# Altium schematic symbol library Actuator Lib.SchLib: 16 symbols
Pins are listed as number, name and electrical type; pins without a type are passive.

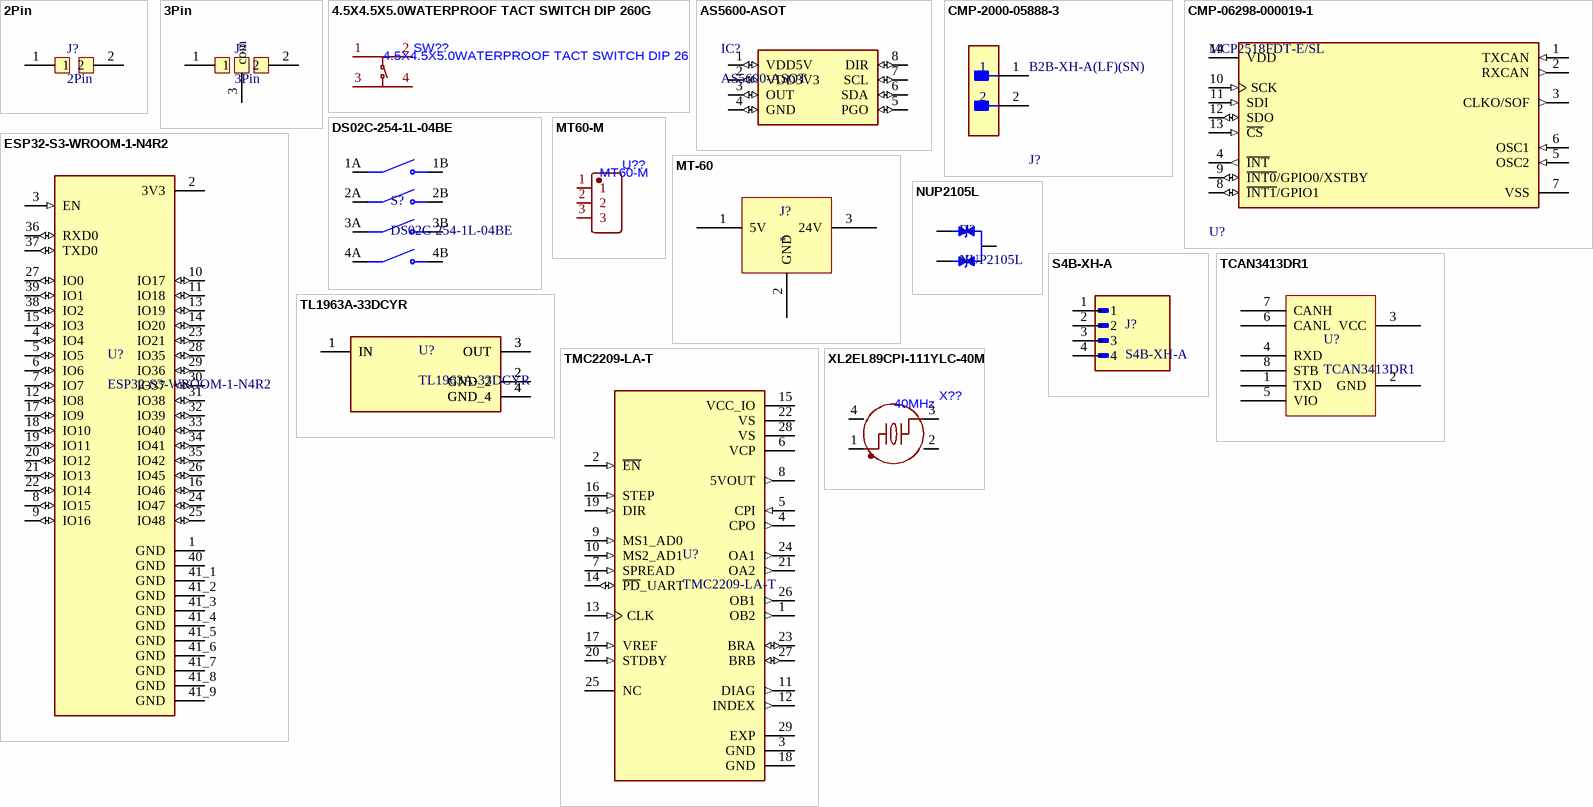
[diagram p0: symbols 2Pin to XL2EL89CPI-111YLC-40M]

## 2Pin
designator J?
footprint 2Pin
pins: 1, 2

## 3Pin
designator J?
footprint Solder_Bridge
pins: 1, 2, 3 com

## 4.5X4.5X5.0WATERPROOF TACT SWITCH DIP 260G
designator SW??
footprint SW-TH_4P-L4.5-W4.5-P3.00-LS5.5
pins: 1 A, 2 B, 3 C, 4 D

## AS5600-ASOT
designator IC?
Hall Effect Sensor Angle External Magnet, Not Included Gull Wing; MF: ams; SnapEDA_Link: https://www.snapeda.com/parts/AS5600-ASOT/ams/view-part/?ref=snap; Package: SOIC-8 ams; Value: *; MP: AS5600-ASOT; Check_prices: https://www.snapeda.com/parts/AS5600-ASOT/ams/view-part/?ref=eda
footprint SOIC127P600X175-8N
pins: 1 VDD5V (io), 2 VDD3V3 (io), 3 OUT (io), 4 GND (io), 5 PGO (io), 6 SDA (io), 7 SCL (io), 8 DIR (io)

## CMP-2000-05888-3
designator J?, comment B2B-XH-A(LF)(SN)
CONN HEADER VERT 2POS 2.5MM; Current Rating: 3A; Voltage Rating: 250V; Number of Contacts: 2; Contact Resistance: 20mR; Wire/Cable Gauge: 22AWG; Insulation Resistance: 1GR; Connector Type: Male Pin; Packaging: Bulk; Contact Material: Brass; Lead Free: Lead Free; Orientation: Straight; Contact Plating: Tin; Max Current Rating: 3A; Termination: Solder; Fastening Type: Detent; Depth: 5.75mm; Housing Material: Polyamide; REACH SVHC: No SVHC; Series: XH; Voltage Rating (AC): 250V; Number of Positions: 2; Color: Natural; Contact Type: Male Pin; Max Voltage Rating (DC): 250V; Pitch: 2.5mm; Lead Pitch: 2.5mm; Mount: Through Hole; Max Operating Temperature: 85°C; Length: 7.4mm; Max Voltage Rating (AC): 250V; Min Operating Temperature: -25°C; Number of Rows: 1; Housing Color: White
footprint FP-B2B-XH-A_LF_SN-MFG
pins: 1, 2

## CMP-06298-000019-1
designator U?, comment MCP2518FDT-E/SL
IC CAN CONTROLLER SPI 14SOIC; RoHS Compliant: Yes
footprint FP-C04-065-SL-IPC_A
pins: 1 TXCAN (in), 2 RXCAN (out), 3 CLKO/SOF (out), 4 ~{INT} (out), 5 OSC2 (in), 6 OSC1 (in), 7 VSS (power), 8 ~{INT1}/GPIO1 (io), 9 ~{INT0}/GPIO0/XSTBY (io), 10 SCK (in), 11 SDI (in), 12 SDO (io), 13 ~{CS} (in), 14 VDD (power)

## DS02C-254-1L-04BE
designator S?
4 Position, Through Hole, 2.54 mm Pitch, Raised Piano Slide Actuator, Convex Bottom, Long Pin, DIP Switch; MF: Same Sky; SnapEDA_Link: https://www.snapeda.com/parts/DS02C-254-1L-04BE/Same+Sky/view-part/?ref=snap; Package: None; Value: *; MP: DS02C-254-1L-04BE; Check_prices: https://www.snapeda.com/parts/DS02C-254-1L-04BE/Same+Sky/view-part/?ref=eda
footprint SW_DS02C-254-1L-04BE
pins: 1A COM1, 1B NO1, 2A COM2, 2B NO2, 3A COM3, 3B NO3, 4A COM4, 4B NO4

## ESP32-S3-WROOM-1-N4R2
designator U?
Bluetooth, WiFi 802.11b/g/n, Bluetooth v5.0 Transceiver Module 2.4GHz PCB Trace Surface Mount; MF: Espressif Systems; Package: None; Purchase-URL: https://pricing.snapeda.com/search/part/ESP32-S3-WROOM-1-N4R2/?ref=eda; Price: None; Availability: In Stock; Check_prices: https://www.snapeda.com/parts/ESP32-S3-WROOM-1-N4R2/Espressif+Systems/view-part/?ref=eda; MP: ESP32-S3-WROOM-1-N4R2; SnapEDA_Link: https://www.snapeda.com/parts/ESP32-S3-WROOM-1-N4R2/Espressif+Systems/view-part/?ref=snap; Value: *
footprint XCVR_ESP32-S3-WROOM-1-N4R2
pins: 1 GND (power), 2 3V3 (power), 3 EN (in), 4 IO4 (io), 5 IO5 (io), 6 IO6 (io), 7 IO7 (io), 8 IO15 (io), 9 IO16 (io), 10 IO17 (io), 11 IO18 (io), 12 IO8 (io), 13 IO19 (io), 14 IO20 (io), 15 IO3 (io), 16 IO46 (io), 17 IO9 (io), 18 IO10 (io), 19 IO11 (io), 20 IO12 (io), 21 IO13 (io), 22 IO14 (io), 23 IO21 (io), 24 IO47 (io), 25 IO48 (io), 26 IO45 (io), 27 IO0 (io), 28 IO35 (io), 29 IO36 (io), 30 IO37 (io), 31 IO38 (io), 32 IO39 (io), 33 IO40 (io), 34 IO41 (io), 35 IO42 (io), 36 RXD0 (io), 37 TXD0 (io), 38 IO2 (io), 39 IO1 (io), 40 GND (power), 41_1 GND (power), 41_2 GND (power), 41_3 GND (power), 41_4 GND (power), 41_5 GND (power), 41_6 GND (power), 41_7 GND (power), 41_8 GND (power), 41_9 GND (power)

## MT60-M
designator U??
footprint CONN-TH_MT30-M
pins: 1, 2, 3

## MT-60
designator J?
LCSC part #: C99176
footprint MT-60
pins: 1 5V, 2 GND, 3 24V

## NUP2105L
designator D?
ESD, SOT-23, 0.1ÂµA, 24V, Unidir; MF: Diotec Semiconductor; SnapEDA_Link: https://www.snapeda.com/parts/NUP2105L/Diotec/view-part/?ref=snap; Package: SOT-23 Diotec; Value: *; MP: NUP2105L; Check_prices: https://www.snapeda.com/parts/NUP2105L/Diotec/view-part/?ref=eda
footprint SOT95P240X120-3N
pins: 1, 2, 3

## S4B-XH-A
designator J?
Package: None; Price: None; Value: *; MP: S4B-XH-A; Availability: Unavailable
footprint JST_S4B-XH-A
pins: 1, 2, 3, 4

## TCAN3413DR1
designator U?
footprint TCAN3413DR1
pins: 1 TXD, 2 GND, 3 VCC, 4 RXD, 5 VIO, 6 CANL, 7 CANH, 8 STB

## TL1963A-33DCYR
designator U?
1.5-A, 20-V, low-dropout voltage regulator with reverse current & reverse voltage protection; MF: Texas Instruments; SnapEDA_Link: https://www.snapeda.com/parts/TL1963A-33DCYR/Texas+Instruments/view-part/?ref=snap; Package: SOT-223-4 Texas Instruments; Value: *; MP: TL1963A-33DCYR; Check_prices: https://www.snapeda.com/parts/TL1963A-33DCYR/Texas+Instruments/view-part/?ref=eda
footprint VREG_TL1963A-33DCYR
pins: 1 IN (power), 1 IN (power), 2 GND_2 (power), 2 GND_2 (power), 3 OUT (power), 3 OUT (power), 4 GND_4 (power), 4 GND_4 (power)

## TMC2209-LA-T
designator U?
Bipolar Motor Driver Power MOSFET Step/Direction, UART 28-QFN (5x5); MF: Trinamic Motion Control GmbH; SnapEDA_Link: https://www.snapeda.com/parts/TMC2209-LA-T/Trinamic/view-part/?ref=snap; Package: VFQFN-28 Trinamic; Value: *; MP: TMC2209-LA-T; Check_prices: https://www.snapeda.com/parts/TMC2209-LA-T/Trinamic/view-part/?ref=eda
footprint QFN50P500X500X90-29N
pins: 1 OB2 (out), 2 ~{EN} (in), 3 GND (power), 4 CPO (out), 5 CPI (in), 6 VCP (power), 7 SPREAD (in), 8 5VOUT (out), 9 MS1_AD0 (in), 10 MS2_AD1 (in), 11 DIAG (out), 12 INDEX (out), 13 CLK (in), 14 ~{PD}_UART (io), 15 VCC_IO (power), 16 STEP (in), 17 VREF (in), 18 GND (power), 19 DIR (in), 20 STDBY (in), 21 OA2 (out), 22 VS (power), 23 BRA (io), 24 OA1 (out), 25 NC, 26 OB1 (out), 27 BRB (io), 28 VS (power), 29 EXP (power)

## XL2EL89CPI-111YLC-40M
designator X??, comment 40MHz
footprint CRYSTAL-SMD_4P-L3.2-W2.5-BL
pins: 1, 2 GND, 3, 4 GND